# EAGLE library part ATMEGA328P-AU (library SamacSys_Parts)
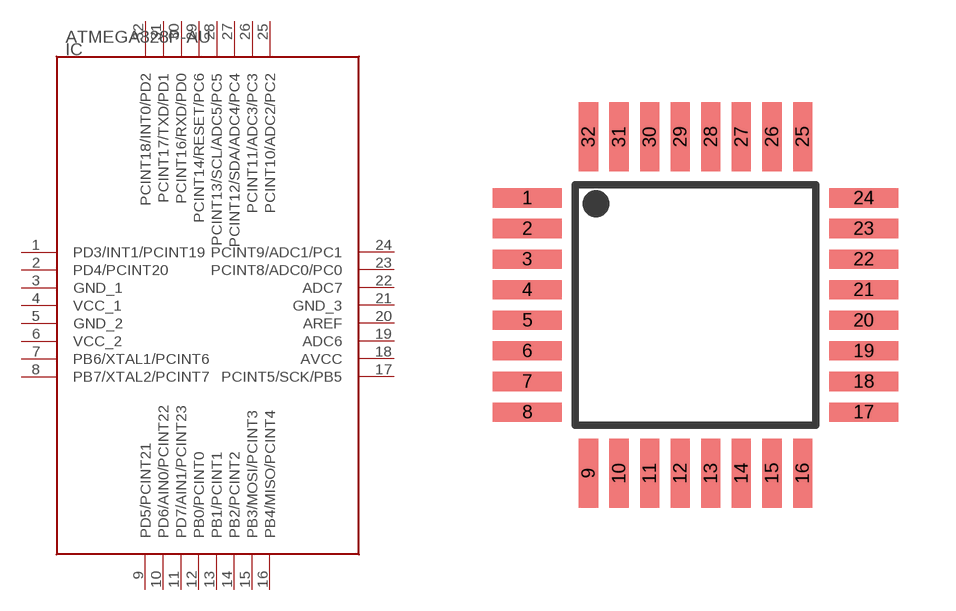
[diagram p13: symbol with the pads of TQFP-32; footprint TQFP-32]

Designator prefix IC

## ATMEGA328P-AU  [TQFP-32]
1  PD3/INT1/PCINT19
2  PD4/PCINT20  pwr
3  GND_1  pwr
4  VCC_1  pwr
5  GND_2  pwr
6  VCC_2  pwr
7  PB6/XTAL1/PCINT6
8  PB7/XTAL2/PCINT7
9  PD5/PCINT21
10  PD6/AIN0/PCINT22
11  PD7/AIN1/PCINT23
12  PB0/PCINT0
13  PB1/PCINT1
14  PB2/PCINT2
15  PB3/MOSI/PCINT3
16  PB4/MISO/PCINT4
17  PCINT5/SCK/PB5
18  AVCC  pwr
19  ADC6
20  AREF
21  GND_3  pwr
22  ADC7
23  PCINT8/ADC0/PC0
24  PCINT9/ADC1/PC1
25  PCINT10/ADC2/PC2
26  PCINT11/ADC3/PC3
27  PCINT12/SDA/ADC4/PC4
28  PCINT13/SCL/ADC5/PC5
29  PCINT14/RESET/PC6
30  PCINT16/RXD/PD0
31  PCINT17/TXD/PD1
32  PCINT18/INT0/PD2

## Footprint TQFP-32 (pad centres in mm)
32A
smd 1.8 x 0.5: 1 -4.4,2.8; 2 -4.4,2; 3 -4.4,1.2; 4 -4.4,0.4; 5 -4.4,-0.4; 6 -4.4,-1.2; 7 -4.4,-2; 8 -4.4,-2.8; 17 4.4,-2.8; 18 4.4,-2; 19 4.4,-1.2; 20 4.4,-0.4; 21 4.4,0.4; 22 4.4,1.2; 23 4.4,2; 24 4.4,2.8
smd 0.5 x 1.8: 9 -2.8,-4.4; 10 -2,-4.4; 11 -1.2,-4.4; 12 -0.4,-4.4; 13 0.4,-4.4; 14 1.2,-4.4; 15 2,-4.4; 16 2.8,-4.4; 25 2.8,4.4; 26 2,4.4; 27 1.2,4.4; 28 0.4,4.4; 29 -0.4,4.4; 30 -1.2,4.4; 31 -2,4.4; 32 -2.8,4.4